# Altium integrated library Wuerth Elektronik EMC Ferrite.IntLib: 193 symbols (part 1 of 3)
Pins are listed as number, name and electrical type; pins without a type are passive.

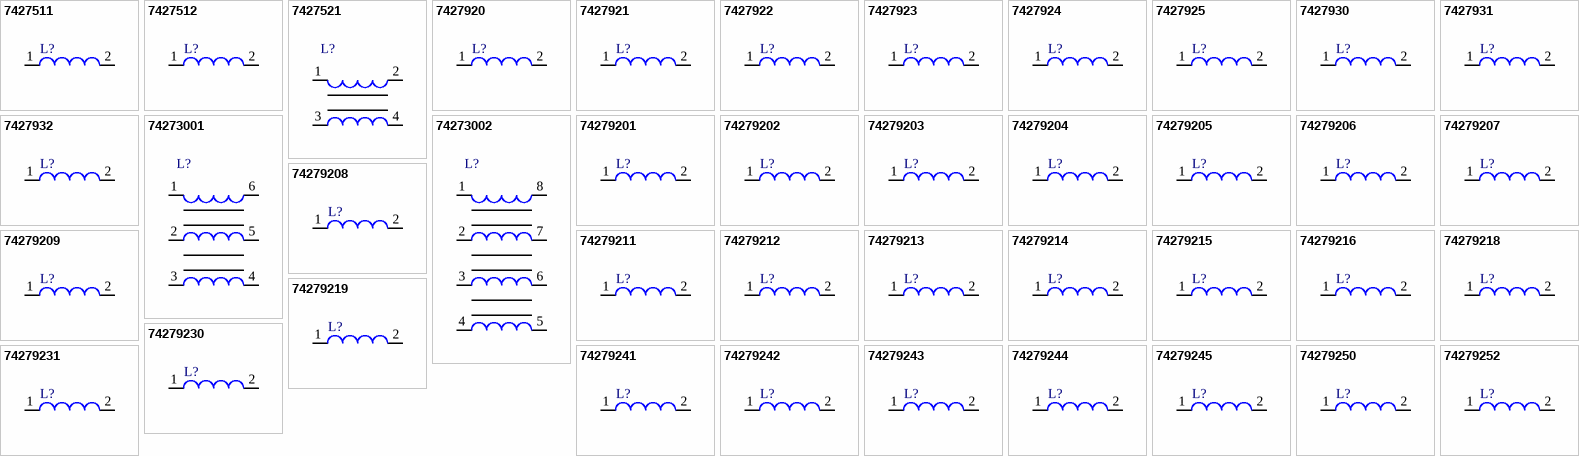
[diagram p0: symbols 7427511 to 74279252]

## 7427511
designator L?
EMI Suppression 5-Hole Ferrite Bead WE-SUKW, Z = 416 Ohm; Impedance: 416 Ohm; DatasheetVersion: ver 6, Jun - 2007; PackageVersion: 2007; PackageReference: WE-SUKW-7427511; PackageDescription: Inductor, 2-Leads, Body 5.5 x 5.0 mm; ComponentLink1Description: Manufacturer URL; ComponentLink1URL: http://www.we-online.com; ComponentLink2Description: Datasheet; ComponentLink2URL: http://www.we-online.de/katalog/media/pdf/7427511.pdf
footprint WE-SUKW-7427511 (Inductor, 2-Leads, Body 5.5x5.0x5.1 mm)
pins: 1, 2

## 7427512
designator L?
EMI Suppression 5-Hole Ferrite Bead WE-SUKW, Z = 580 Ohm; Impedance: 580 Ohm; DatasheetVersion: ver 6, Jun - 2007; PackageVersion: 2007; PackageReference: WE-SUKW-7427512; PackageDescription: Inductor, 2-Leads, Body 8.5 x 4.65 mm; ComponentLink1Description: Manufacturer URL; ComponentLink1URL: http://www.we-online.com; ComponentLink2Description: Datasheet; ComponentLink2URL: http://www.we-online.de/katalog/media/pdf/7427512.pdf
footprint WE-SUKW-7427512 (Inductor, 2-Leads, Body 8.5x4.65x5.5 mm)
pins: 1, 2

## 7427521
designator L?
Common Mode SMD Bead WE-CMS, Z = 52 Ohm; Impedance: 52 Ohm; DatasheetVersion: ver 8, Jul-2010; PackageVersion: 2010; PackageReference: WE-CMS; PackageDescription: Inductor, 4-Leads, Body 8.5 x 5.6 mm; ComponentLink1Description: Manufacturer URL; ComponentLink1URL: http://www.we-online.com; ComponentLink2Description: Datasheet; ComponentLink2URL: http://www.we-online.de/katalog/media/pdf/7427521.pdf
footprint WE-CMS (Inductor, 4-Leads, Body 8.5x5.6x3.2 mm)
pins: 1, 2, 3, 4

## 7427920
designator L?
SMD EMI Suppression Ferrite Bead WE-CBF, Z = 11 Ohm; Impedance: 11 Ohm; DatasheetVersion: Dec-2005; PackageVersion: 2005; PackageReference: SMD-0805; PackageDescription: Chip Inductor, 2-Leads, Body 2.0 x 1.2 mm; ComponentLink1Description: Manufacturer URL; ComponentLink1URL: http://www.we-online.com; ComponentLink2Description: Datasheet; ComponentLink2URL: http://www.we-online.de/katalog/media/pdf/7427920.pdf
footprint SMD-0805 (Chip Inductor, 2-Leads, Body 2.0x1.2x1.1 mm)
pins: 1, 2

## 7427921
designator L?
SMD EMI Suppression Ferrite Bead WE-CBF, Z = 32 Ohm; Impedance: 32 Ohm; DatasheetVersion: Dec-2005; PackageVersion: 2007; PackageReference: SMD-1206; PackageDescription: Chip Inductor, 2-Leads, Body 3.2 x 1.6 mm; ComponentLink1Description: Manufacturer URL; ComponentLink1URL: http://www.we-online.com; ComponentLink2Description: Datasheet; ComponentLink2URL: http://www.we-online.de/katalog/media/pdf/7427921.pdf
footprint SMD-1206 (Chip Inductor, 2-Leads, Body 3.2x1.6x1.3 mm)
pins: 1, 2

## 7427922
designator L?
SMD EMI Suppression Ferrite Bead WE-CBF, Z = 60 Ohm; Impedance: 60 Ohm; DatasheetVersion: Dec-2005; PackageVersion: 2007; PackageReference: SMD-1206; PackageDescription: Chip Inductor, 2-Leads, Body 3.2 x 1.6 mm; ComponentLink1Description: Manufacturer URL; ComponentLink1URL: http://www.we-online.com; ComponentLink2Description: Datasheet; ComponentLink2URL: http://www.we-online.de/katalog/media/pdf/7427922.pdf
footprint SMD-1206 (Chip Inductor, 2-Leads, Body 3.2x1.6x1.3 mm)
pins: 1, 2

## 7427923
designator L?
SMD EMI Suppression Ferrite Bead WE-CBF, Z = 90 Ohm; Impedance: 90 Ohm; DatasheetVersion: Nov-2007; PackageVersion: 2007; PackageReference: SMD-1210; PackageDescription: Chip Inductor, 2-Leads, Body 3.2 x 2.5 mm; ComponentLink1Description: Manufacturer URL; ComponentLink1URL: http://www.we-online.com; ComponentLink2Description: Datasheet; ComponentLink2URL: http://www.we-online.de/katalog/media/pdf/7427923.pdf
footprint SMD-1210 (Chip Inductor, 2-Leads, Body 3.2x2.5x1.5 mm)
pins: 1, 2

## 7427924
designator L?
SMD EMI Suppression Ferrite Bead WE-CBF, Z = 60 Ohm; Impedance: 60 Ohm; DatasheetVersion: Dec-2005; PackageVersion: 2005; PackageReference: SMD-1806; PackageDescription: Chip Inductor, 2-Leads, Body 4.5 x 1.6 mm; ComponentLink1Description: Manufacturer URL; ComponentLink1URL: http://www.we-online.com; ComponentLink2Description: Datasheet; ComponentLink2URL: http://www.we-online.de/katalog/media/pdf/7427924.pdf
footprint SMD-1806 (Chip Inductor, 2-Leads, Body 4.5x1.6x1.8 mm)
pins: 1, 2

## 7427925
designator L?
SMD EMI Suppression Ferrite Bead WE-CBF, Z = 120 Ohm; Impedance: 120 Ohm; DatasheetVersion: Dec-2005; PackageVersion: 2010; PackageReference: SMD-1812; PackageDescription: Chip Inductor, 2-Leads, Body 4.5 x 3.2 mm; ComponentLink1Description: Manufacturer URL; ComponentLink1URL: http://www.we-online.com; ComponentLink2Description: Datasheet; ComponentLink2URL: http://www.we-online.de/katalog/media/pdf/7427925.pdf
footprint SMD-1812 (Chip Inductor, 2-Leads, Body 4.5x3.2x1.7 mm)
pins: 1, 2

## 7427930
designator L?
SMD Power Bead Ferrite WE-PBF, Z = 42 Ohm; Impedance: 42 Ohm; DatasheetVersion: ver 4, Oct-2007; PackageVersion: 2007; PackageReference: PBF-7427930; PackageDescription: Molded Inductor, 2-Leads, Body 4.0 x 3.0 mm; ComponentLink1Description: Manufacturer URL; ComponentLink1URL: http://www.we-online.com; ComponentLink2Description: Datasheet; ComponentLink2URL: http://www.we-online.de/katalog/media/pdf/7427930.pdf
footprint PBF-7427930 (Molded Inductor, 2-Leads, Body 4.0x3.0x2.7 mm)
pins: 1, 2

## 7427931
designator L?
SMD Power Bead Ferrite WE-PBF, Z = 91 Ohm; Impedance: 91 Ohm; DatasheetVersion: ver 4, Oct-2007; PackageVersion: 2007; PackageReference: PBF-7427931; PackageDescription: Molded Inductor, 2-Leads, Body 8.5 x 3.0 mm; ComponentLink1Description: Manufacturer URL; ComponentLink1URL: http://www.we-online.com; ComponentLink2Description: Datasheet; ComponentLink2URL: http://www.we-online.de/katalog/media/pdf/7427931.pdf
footprint PBF-7427931 (Molded Inductor, 2-Leads, Body 8.5x3.0x2.7 mm)
pins: 1, 2

## 7427932
designator L?
SMD Power Bead Ferrite WE-PBF, Z = 98 Ohm; Impedance: 98 Ohm; DatasheetVersion: ver 4, Oct-2007; PackageVersion: 2007; PackageReference: PBF-7427932; PackageDescription: Molded Inductor, 2-Leads, Body 7.8 x 4.75 mm; ComponentLink1Description: Manufacturer URL; ComponentLink1URL: http://www.we-online.com; ComponentLink2Description: Datasheet; ComponentLink2URL: http://www.we-online.de/katalog/media/pdf/7427932.pdf
footprint PBF-7427932 (Molded Inductor, 2-Leads, Body 7.8x4.75x3.15 mm)
pins: 1, 2

## 74273001
designator L?
Multiline EMI Suppression Ferrite WE-MLS, Z = 264 Ohm; Impedance: 264 Ohm; DatasheetVersion: ver 7, Apr-2007; PackageVersion: 2007; PackageReference: WE-MLS-74273001; PackageDescription: Inductor, 6-Leads, Body 7.62 x 5.08 mm; ComponentLink1Description: Manufacturer URL; ComponentLink1URL: http://www.we-online.com; ComponentLink2Description: Datasheet; ComponentLink2URL: http://www.we-online.de/katalog/media/pdf/74273001.pdf
footprint WE-MLS-74273001 (Inductor, 6-Leads, Body 7.62x5.08x10 mm)
pins: 1, 2, 3, 4, 5, 6

## 74273002
designator L?
Multiline EMI Suppression Ferrite WE-MLS, Z = 249 Ohm; Impedance: 249 Ohm; DatasheetVersion: ver 7, Apr-2007; PackageVersion: 2007; PackageReference: WE-MLS-74273002; PackageDescription: Inductor, 8-Leads, Body 10.88 x 5.49 mm; ComponentLink1Description: Manufacturer URL; ComponentLink1URL: http://www.we-online.com; ComponentLink2Description: Datasheet; ComponentLink2URL: http://www.we-online.de/katalog/media/pdf/74273002.pdf
footprint WE-MLS-74273002 (Inductor, 8-Leads, Body 10.88x5.49x10 mm)
pins: 1, 2, 3, 4, 5, 6, 7, 8

## 74279201
designator L?
SMD EMI Suppression Ferrite Bead WE-CBF, Z = 32 Ohm; Impedance: 32 Ohm; DatasheetVersion: Dec-2005; PackageVersion: 2005; PackageReference: SMD-0805; PackageDescription: Chip Inductor, 2-Leads, Body 2.0 x 1.2 mm; ComponentLink1Description: Manufacturer URL; ComponentLink1URL: http://www.we-online.com; ComponentLink2Description: Datasheet; ComponentLink2URL: http://www.we-online.de/katalog/media/pdf/74279201.pdf
footprint SMD-0805 (Chip Inductor, 2-Leads, Body 2.0x1.2x1.1 mm)
pins: 1, 2

## 74279202
designator L?
SMD EMI Suppression Ferrite Bead WE-CBF, Z = 120 Ohm; Impedance: 120 Ohm; DatasheetVersion: Dec-2005; PackageVersion: 2005; PackageReference: SMD-0805; PackageDescription: Chip Inductor, 2-Leads, Body 2.0 x 1.2 mm; ComponentLink1Description: Manufacturer URL; ComponentLink1URL: http://www.we-online.com; ComponentLink2Description: Datasheet; ComponentLink2URL: http://www.we-online.de/katalog/media/pdf/74279202.pdf
footprint SMD-0805 (Chip Inductor, 2-Leads, Body 2.0x1.2x1.1 mm)
pins: 1, 2

## 74279203
designator L?
SMD EMI Suppression Ferrite Bead WE-CBF, Z = 150 Ohm; Impedance: 150 Ohm; DatasheetVersion: Dec-2005; PackageVersion: 2005; PackageReference: SMD-0805; PackageDescription: Chip Inductor, 2-Leads, Body 2.0 x 1.2 mm; ComponentLink1Description: Manufacturer URL; ComponentLink1URL: http://www.we-online.com; ComponentLink2Description: Datasheet; ComponentLink2URL: http://www.we-online.de/katalog/media/pdf/74279203.pdf
footprint SMD-0805 (Chip Inductor, 2-Leads, Body 2.0x1.2x1.1 mm)
pins: 1, 2

## 74279204
designator L?
SMD EMI Suppression Ferrite Bead WE-CBF, Z = 600 Ohm; Impedance: 600 Ohm; DatasheetVersion: Dec-2005; PackageVersion: 2005; PackageReference: SMD-0805; PackageDescription: Chip Inductor, 2-Leads, Body 2.0 x 1.2 mm; ComponentLink1Description: Manufacturer URL; ComponentLink1URL: http://www.we-online.com; ComponentLink2Description: Datasheet; ComponentLink2URL: http://www.we-online.de/katalog/media/pdf/74279204.pdf
footprint SMD-0805 (Chip Inductor, 2-Leads, Body 2.0x1.2x1.1 mm)
pins: 1, 2

## 74279205
designator L?
SMD EMI Suppression Ferrite Bead WE-CBF, Z = 1000 Ohm; DatasheetVersion: Dec-2005; PackageVersion: 2005; PackageReference: SMD-0805; PackageDescription: Chip Inductor, 2-Leads, Body 2.0 x 1.2 mm; Impedance: 1000 Ohm; ComponentLink1Description: Manufacturer URL; ComponentLink1URL: http://www.we-online.com; ComponentLink2Description: Datasheet; ComponentLink2URL: http://www.we-online.de/katalog/media/pdf/74279205.pdf
footprint SMD-0805 (Chip Inductor, 2-Leads, Body 2.0x1.2x1.1 mm)
pins: 1, 2

## 74279206
designator L?
SMD EMI Suppression Ferrite Bead WE-CBF, Z = 30 Ohm; Impedance: 30 Ohm; DatasheetVersion: Dec-2005; PackageVersion: 2005; PackageReference: SMD-0805; PackageDescription: Chip Inductor, 2-Leads, Body 2.0 x 1.2 mm; ComponentLink1Description: Manufacturer URL; ComponentLink1URL: http://www.we-online.com; ComponentLink2Description: Datasheet; ComponentLink2URL: http://www.we-online.de/katalog/media/pdf/74279206.pdf
footprint SMD-0805 (Chip Inductor, 2-Leads, Body 2.0x1.2x1.1 mm)
pins: 1, 2

## 74279207
designator L?
SMD EMI Suppression Ferrite Bead WE-CBF, Z = 100 Ohm; Impedance: 100 Ohm; DatasheetVersion: Dec-2005; PackageVersion: 2005; PackageReference: SMD-0805; PackageDescription: Chip Inductor, 2-Leads, Body 2.0 x 1.2 mm; ComponentLink1Description: Manufacturer URL; ComponentLink1URL: http://www.we-online.com; ComponentLink2Description: Datasheet; ComponentLink2URL: http://www.we-online.de/katalog/media/pdf/74279207.pdf
footprint SMD-0805 (Chip Inductor, 2-Leads, Body 2.0x1.2x1.1 mm)
pins: 1, 2

## 74279208
designator L?
SMD EMI Suppression Ferrite Bead WE-CBF, Z = 40 Ohm; Impedance: 40 Ohm; DatasheetVersion: Dec-2005; PackageVersion: 2005; PackageReference: SMD-0805; PackageDescription: Chip Inductor, 2-Leads, Body 2.0 x 1.2 mm; ComponentLink1Description: Manufacturer URL; ComponentLink1URL: http://www.we-online.com; ComponentLink2Description: Datasheet; ComponentLink2URL: http://www.we-online.de/katalog/media/pdf/74279208.pdf
footprint SMD-0805 (Chip Inductor, 2-Leads, Body 2.0x1.2x1.1 mm)
pins: 1, 2

## 74279209
designator L?
SMD EMI Suppression Ferrite Bead WE-CBF, Z = 1200 Ohm; DatasheetVersion: Dec-2005; PackageVersion: 2005; PackageReference: SMD-0805; PackageDescription: Chip Inductor, 2-Leads, Body 2.0 x 1.2 mm; Impedance: 1200 Ohm; ComponentLink1Description: Manufacturer URL; ComponentLink1URL: http://www.we-online.com; ComponentLink2Description: Datasheet; ComponentLink2URL: http://www.we-online.de/katalog/media/pdf/74279209.pdf
footprint SMD-0805 (Chip Inductor, 2-Leads, Body 2.0x1.2x1.1 mm)
pins: 1, 2

## 74279211
designator L?
SMD EMI Suppression Ferrite Bead WE-CBF, Z = 90 Ohm; Impedance: 90 Ohm; DatasheetVersion: Dec-2005; PackageVersion: 2007; PackageReference: SMD-1206; PackageDescription: Chip Inductor, 2-Leads, Body 3.2 x 1.6 mm; ComponentLink1Description: Manufacturer URL; ComponentLink1URL: http://www.we-online.com; ComponentLink2Description: Datasheet; ComponentLink2URL: http://www.we-online.de/katalog/media/pdf/74279211.pdf
footprint SMD-1206 (Chip Inductor, 2-Leads, Body 3.2x1.6x1.3 mm)
pins: 1, 2

## 74279212
designator L?
SMD EMI Suppression Ferrite Bead WE-CBF, Z = 150 Ohm; Impedance: 150 Ohm; DatasheetVersion: Dec-2005; PackageVersion: 2007; PackageReference: SMD-1206; PackageDescription: Chip Inductor, 2-Leads, Body 3.2 x 1.6 mm; ComponentLink1Description: Manufacturer URL; ComponentLink1URL: http://www.we-online.com; ComponentLink2Description: Datasheet; ComponentLink2URL: http://www.we-online.de/katalog/media/pdf/74279212.pdf
footprint SMD-1206 (Chip Inductor, 2-Leads, Body 3.2x1.6x1.3 mm)
pins: 1, 2

## 74279213
designator L?
SMD EMI Suppression Ferrite Bead WE-CBF, Z = 600 Ohm; Impedance: 600 Ohm; DatasheetVersion: Dec-2005; PackageVersion: 2007; PackageReference: SMD-1206; PackageDescription: Chip Inductor, 2-Leads, Body 3.2 x 1.6 mm; ComponentLink1Description: Manufacturer URL; ComponentLink1URL: http://www.we-online.com; ComponentLink2Description: Datasheet; ComponentLink2URL: http://www.we-online.de/katalog/media/pdf/74279213.pdf
footprint SMD-1206 (Chip Inductor, 2-Leads, Body 3.2x1.6x1.3 mm)
pins: 1, 2

## 74279214
designator L?
SMD EMI Suppression Ferrite Bead WE-CBF, Z = 1000 Ohm; DatasheetVersion: Dec-2005; PackageVersion: 2007; PackageReference: SMD-1206; PackageDescription: Chip Inductor, 2-Leads, Body 3.2 x 1.6 mm; Impedance: 1000 Ohm; ComponentLink1Description: Manufacturer URL; ComponentLink1URL: http://www.we-online.com; ComponentLink2Description: Datasheet; ComponentLink2URL: http://www.we-online.de/katalog/media/pdf/74279214.pdf
footprint SMD-1206 (Chip Inductor, 2-Leads, Body 3.2x1.6x1.3 mm)
pins: 1, 2

## 74279215
designator L?
SMD EMI Suppression Ferrite Bead WE-CBF, Z = 80 Ohm; Impedance: 80 Ohm; DatasheetVersion: Dec-2005; PackageVersion: 2007; PackageReference: SMD-1206; PackageDescription: Chip Inductor, 2-Leads, Body 3.2 x 1.6 mm; ComponentLink1Description: Manufacturer URL; ComponentLink1URL: http://www.we-online.com; ComponentLink2Description: Datasheet; ComponentLink2URL: http://www.we-online.de/katalog/media/pdf/74279215.pdf
footprint SMD-1206 (Chip Inductor, 2-Leads, Body 3.2x1.6x1.3 mm)
pins: 1, 2

## 74279216
designator L?
SMD EMI Suppression Ferrite Bead WE-CBF, Z = 1200 Ohm; DatasheetVersion: Dec-2005; PackageVersion: 2007; PackageReference: SMD-1206; PackageDescription: Chip Inductor, 2-Leads, Body 3.2 x 1.6 mm; Impedance: 1200 Ohm; ComponentLink1Description: Manufacturer URL; ComponentLink1URL: http://www.we-online.com; ComponentLink2Description: Datasheet; ComponentLink2URL: http://www.we-online.de/katalog/media/pdf/74279216.pdf
footprint SMD-1206 (Chip Inductor, 2-Leads, Body 3.2x1.6x1.3 mm)
pins: 1, 2

## 74279218
designator L?
SMD EMI Suppression Ferrite Bead WE-CBF, Z = 600 Ohm; Impedance: 600 Ohm; DatasheetVersion: Dec-2005; PackageVersion: 2007; PackageReference: SMD-1206; PackageDescription: Chip Inductor, 2-Leads, Body 3.2 x 1.6 mm; ComponentLink1Description: Manufacturer URL; ComponentLink1URL: http://www.we-online.com; ComponentLink2Description: Datasheet; ComponentLink2URL: http://www.we-online.de/katalog/media/pdf/74279218.pdf
footprint SMD-1206 (Chip Inductor, 2-Leads, Body 3.2x1.6x1.3 mm)
pins: 1, 2

## 74279219
designator L?
SMD EMI Suppression Ferrite Bead WE-CBF, Z = 700 Ohm; Impedance: 700 Ohm; DatasheetVersion: Dec-2005; PackageVersion: 2007; PackageReference: SMD-1206; PackageDescription: Chip Inductor, 2-Leads, Body 3.2 x 1.6 mm; ComponentLink1Description: Manufacturer URL; ComponentLink1URL: http://www.we-online.com; ComponentLink2Description: Datasheet; ComponentLink2URL: http://www.we-online.de/katalog/media/pdf/74279219.pdf
footprint SMD-1206 (Chip Inductor, 2-Leads, Body 3.2x1.6x1.3 mm)
pins: 1, 2

## 74279230
designator L?
SMD EMI Suppression Ferrite Bead WE-CBF, Z = 32 Ohm; Impedance: 32 Ohm; DatasheetVersion: Nov-2007; PackageVersion: 2007; PackageReference: SMD-1210; PackageDescription: Chip Inductor, 2-Leads, Body 3.2 x 2.5 mm; ComponentLink1Description: Manufacturer URL; ComponentLink1URL: http://www.we-online.com; ComponentLink2Description: Datasheet; ComponentLink2URL: http://www.we-online.de/katalog/media/pdf/74279230.pdf
footprint SMD-1210 (Chip Inductor, 2-Leads, Body 3.2x2.5x1.5 mm)
pins: 1, 2

## 74279231
designator L?
SMD EMI Suppression Ferrite Bead WE-CBF, Z = 60 Ohm; Impedance: 60 Ohm; DatasheetVersion: Nov-2007; PackageVersion: 2007; PackageReference: SMD-1210; PackageDescription: Chip Inductor, 2-Leads, Body 3.2 x 2.5 mm; ComponentLink1Description: Manufacturer URL; ComponentLink1URL: http://www.we-online.com; ComponentLink2Description: Datasheet; ComponentLink2URL: http://www.we-online.de/katalog/media/pdf/74279231.pdf
footprint SMD-1210 (Chip Inductor, 2-Leads, Body 3.2x2.5x1.5 mm)
pins: 1, 2

## 74279241
designator L?
SMD EMI Suppression Ferrite Bead WE-CBF, Z = 80 Ohm; Impedance: 80 Ohm; DatasheetVersion: Dec-2005; PackageVersion: 2005; PackageReference: SMD-1806; PackageDescription: Chip Inductor, 2-Leads, Body 4.5 x 1.6 mm; ComponentLink1Description: Manufacturer URL; ComponentLink1URL: http://www.we-online.com; ComponentLink2Description: Datasheet; ComponentLink2URL: http://www.we-online.de/katalog/media/pdf/74279241.pdf
footprint SMD-1806 (Chip Inductor, 2-Leads, Body 4.5x1.6x1.8 mm)
pins: 1, 2

## 74279242
designator L?
SMD EMI Suppression Ferrite Bead WE-CBF, Z = 150 Ohm; Impedance: 150 Ohm; DatasheetVersion: Dec-2005; PackageVersion: 2005; PackageReference: SMD-1806; PackageDescription: Chip Inductor, 2-Leads, Body 4.5 x 1.6 mm; ComponentLink1Description: Manufacturer URL; ComponentLink1URL: http://www.we-online.com; ComponentLink2Description: Datasheet; ComponentLink2URL: http://www.we-online.de/katalog/media/pdf/74279242.pdf
footprint SMD-1806 (Chip Inductor, 2-Leads, Body 4.5x1.6x1.8 mm)
pins: 1, 2

## 74279243
designator L?
SMD EMI Suppression Ferrite Bead WE-CBF, Z = 75 Ohm; Impedance: 75 Ohm; DatasheetVersion: Dec-2005; PackageVersion: 2005; PackageReference: SMD-1806; PackageDescription: Chip Inductor, 2-Leads, Body 4.5 x 1.6 mm; ComponentLink1Description: Manufacturer URL; ComponentLink1URL: http://www.we-online.com; ComponentLink2Description: Datasheet; ComponentLink2URL: http://www.we-online.de/katalog/media/pdf/74279243.pdf
footprint SMD-1806 (Chip Inductor, 2-Leads, Body 4.5x1.6x1.8 mm)
pins: 1, 2

## 74279244
designator L?
SMD EMI Suppression Ferrite Bead WE-CBF, Z = 850 Ohm; Impedance: 850 Ohm; DatasheetVersion: Dec-2005; PackageVersion: 2005; PackageReference: SMD-1806; PackageDescription: Chip Inductor, 2-Leads, Body 4.5 x 1.6 mm; ComponentLink1Description: Manufacturer URL; ComponentLink1URL: http://www.we-online.com; ComponentLink2Description: Datasheet; ComponentLink2URL: http://www.we-online.de/katalog/media/pdf/74279244.pdf
footprint SMD-1806 (Chip Inductor, 2-Leads, Body 4.5x1.6x1.8 mm)
pins: 1, 2

## 74279245
designator L?
SMD EMI Suppression Ferrite Bead WE-CBF, Z = 110 Ohm; Impedance: 110 Ohm; DatasheetVersion: Dec-2005; PackageVersion: 2005; PackageReference: SMD-1806; PackageDescription: Chip Inductor, 2-Leads, Body 4.5 x 1.6 mm; ComponentLink1Description: Manufacturer URL; ComponentLink1URL: http://www.we-online.com; ComponentLink2Description: Datasheet; ComponentLink2URL: http://www.we-online.de/katalog/media/pdf/74279245.pdf
footprint SMD-1806 (Chip Inductor, 2-Leads, Body 4.5x1.6x1.8 mm)
pins: 1, 2

## 74279250
designator L?
SMD EMI Suppression Ferrite Bead WE-CBF, Z = 70 Ohm; Impedance: 70 Ohm; DatasheetVersion: Dec-2005; PackageVersion: 2010; PackageReference: SMD-1812; PackageDescription: Chip Inductor, 2-Leads, Body 4.5 x 3.2 mm; ComponentLink1Description: Manufacturer URL; ComponentLink1URL: http://www.we-online.com; ComponentLink2Description: Datasheet; ComponentLink2URL: http://www.we-online.de/katalog/media/pdf/74279250.pdf
footprint SMD-1812 (Chip Inductor, 2-Leads, Body 4.5x3.2x1.7 mm)
pins: 1, 2

## 74279252
designator L?
SMD EMI Suppression Ferrite Bead WE-CBF, Z = 680 Ohm; Impedance: 680 Ohm; DatasheetVersion: ver 7, May-2010; PackageVersion: 2010; PackageReference: SMD-1812; PackageDescription: Chip Inductor, 2-Leads, Body 4.5 x 3.2 mm; ComponentLink1Description: Manufacturer URL; ComponentLink1URL: http://www.we-online.com; ComponentLink2Description: Datasheet; ComponentLink2URL: http://www.we-online.de/katalog/media/pdf/74279252.pdf
footprint SMD-1812 (Chip Inductor, 2-Leads, Body 4.5x3.2x1.7 mm)
pins: 1, 2

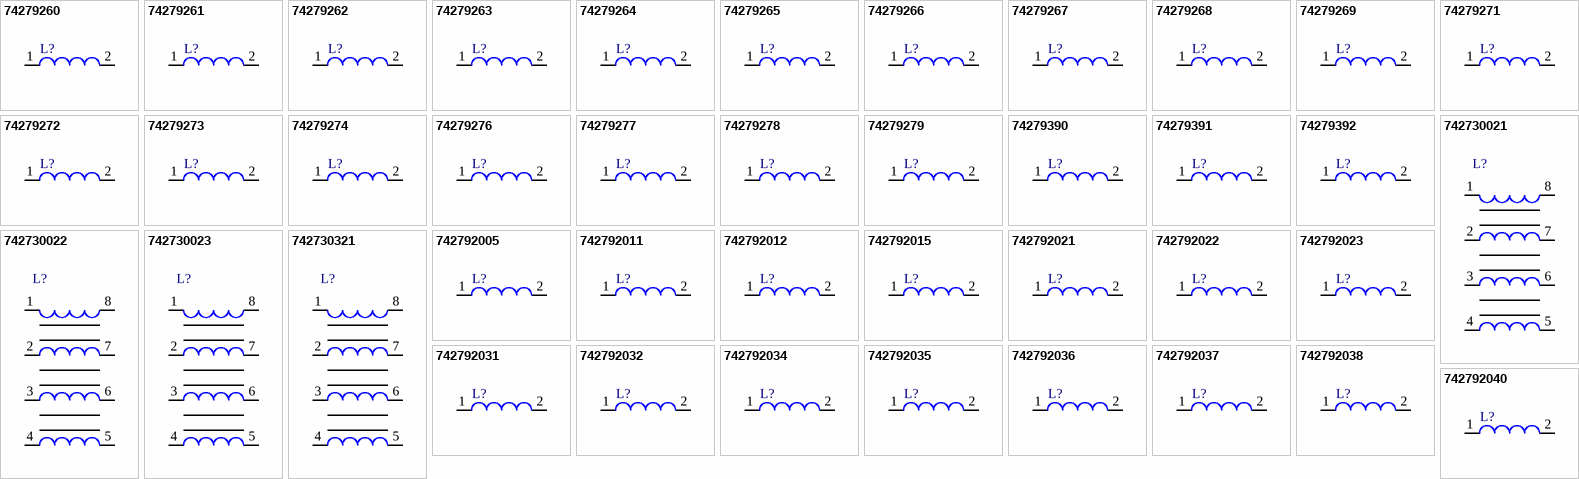
[diagram p1: symbols 74279260 to 742792040]

## 74279260
designator L?
SMD EMI Suppression Ferrite Bead WE-CBF, Z = 40 Ohm; Impedance: 40 Ohm; DatasheetVersion: Dec-2005; PackageVersion: 2009; PackageReference: SMD-0603; PackageDescription: Chip Inductor, 2-Leads, Body 1.6 x 0.8 mm; ComponentLink1Description: Manufacturer URL; ComponentLink1URL: http://www.we-online.com; ComponentLink2Description: Datasheet; ComponentLink2URL: http://www.we-online.de/katalog/media/pdf/74279260.pdf
footprint SMD-0603 (Chip Inductor, 2-Leads, Body 1.6x0.8x0.95 mm)
pins: 1, 2

## 74279261
designator L?
SMD EMI Suppression Ferrite Bead WE-CBF, Z = 80 Ohm; Impedance: 80 Ohm; DatasheetVersion: ver 5, Jun-2007; PackageVersion: 2009; PackageReference: SMD-0603; PackageDescription: Chip Inductor, 2-Leads, Body 1.6 x 0.8 mm; ComponentLink1Description: Manufacturer URL; ComponentLink1URL: http://www.we-online.com; ComponentLink2Description: Datasheet; ComponentLink2URL: http://www.we-online.de/katalog/media/pdf/74279261.pdf
footprint SMD-0603 (Chip Inductor, 2-Leads, Body 1.6x0.8x0.95 mm)
pins: 1, 2

## 74279262
designator L?
SMD EMI Suppression Ferrite Bead WE-CBF, Z = 120 Ohm; Impedance: 120 Ohm; DatasheetVersion: Dec-2005; PackageVersion: 2009; PackageReference: SMD-0603; PackageDescription: Chip Inductor, 2-Leads, Body 1.6 x 0.8 mm; ComponentLink1Description: Manufacturer URL; ComponentLink1URL: http://www.we-online.com; ComponentLink2Description: Datasheet; ComponentLink2URL: http://www.we-online.de/katalog/media/pdf/74279262.pdf
footprint SMD-0603 (Chip Inductor, 2-Leads, Body 1.6x0.8x0.95 mm)
pins: 1, 2

## 74279263
designator L?
SMD EMI Suppression Ferrite Bead WE-CBF, Z = 220 Ohm; Impedance: 220 Ohm; DatasheetVersion: Dec-2005; PackageVersion: 2009; PackageReference: SMD-0603; PackageDescription: Chip Inductor, 2-Leads, Body 1.6 x 0.8 mm; ComponentLink1Description: Manufacturer URL; ComponentLink1URL: http://www.we-online.com; ComponentLink2Description: Datasheet; ComponentLink2URL: http://www.we-online.de/katalog/media/pdf/74279263.pdf
footprint SMD-0603 (Chip Inductor, 2-Leads, Body 1.6x0.8x0.95 mm)
pins: 1, 2

## 74279264
designator L?
SMD EMI Suppression Ferrite Bead WE-CBF, Z = 300 Ohm; Impedance: 300 Ohm; DatasheetVersion: Dec-2005; PackageVersion: 2009; PackageReference: SMD-0603; PackageDescription: Chip Inductor, 2-Leads, Body 1.6 x 0.8 mm; ComponentLink1Description: Manufacturer URL; ComponentLink1URL: http://www.we-online.com; ComponentLink2Description: Datasheet; ComponentLink2URL: http://www.we-online.de/katalog/media/pdf/74279264.pdf
footprint SMD-0603 (Chip Inductor, 2-Leads, Body 1.6x0.8x0.95 mm)
pins: 1, 2

## 74279265
designator L?
SMD EMI Suppression Ferrite Bead WE-CBF, Z = 600 Ohm; Impedance: 600 Ohm; DatasheetVersion: Dec-2005; PackageVersion: 2009; PackageReference: SMD-0603; PackageDescription: Chip Inductor, 2-Leads, Body 1.6 x 0.8 mm; ComponentLink1Description: Manufacturer URL; ComponentLink1URL: http://www.we-online.com; ComponentLink2Description: Datasheet; ComponentLink2URL: http://www.we-online.de/katalog/media/pdf/74279265.pdf
footprint SMD-0603 (Chip Inductor, 2-Leads, Body 1.6x0.8x0.95 mm)
pins: 1, 2

## 74279266
designator L?
SMD EMI Suppression Ferrite Bead WE-CBF, Z = 1000 Ohm; DatasheetVersion: Dec-2005; PackageVersion: 2009; PackageReference: SMD-0603; PackageDescription: Chip Inductor, 2-Leads, Body 1.6 x 0.8 mm; Impedance: 1000 Ohm; ComponentLink1Description: Manufacturer URL; ComponentLink1URL: http://www.we-online.com; ComponentLink2Description: Datasheet; ComponentLink2URL: http://www.we-online.de/katalog/media/pdf/74279266.pdf
footprint SMD-0603 (Chip Inductor, 2-Leads, Body 1.6x0.8x0.95 mm)
pins: 1, 2

## 74279267
designator L?
SMD EMI Suppression Ferrite Bead WE-CBF, Z = 60 Ohm; Impedance: 60 Ohm; DatasheetVersion: Dec-2005; PackageVersion: 2009; PackageReference: SMD-0603; PackageDescription: Chip Inductor, 2-Leads, Body 1.6 x 0.8 mm; ComponentLink1Description: Manufacturer URL; ComponentLink1URL: http://www.we-online.com; ComponentLink2Description: Datasheet; ComponentLink2URL: http://www.we-online.de/katalog/media/pdf/74279267.pdf
footprint SMD-0603 (Chip Inductor, 2-Leads, Body 1.6x0.8x0.95 mm)
pins: 1, 2

## 74279268
designator L?
SMD EMI Suppression Ferrite Bead WE-CBF, Z = 15 Ohm; Impedance: 15 Ohm; DatasheetVersion: Dec-2005; PackageVersion: 2009; PackageReference: SMD-0603; PackageDescription: Chip Inductor, 2-Leads, Body 1.6 x 0.8 mm; ComponentLink1Description: Manufacturer URL; ComponentLink1URL: http://www.we-online.com; ComponentLink2Description: Datasheet; ComponentLink2URL: http://www.we-online.de/katalog/media/pdf/74279268.pdf
footprint SMD-0603 (Chip Inductor, 2-Leads, Body 1.6x0.8x0.95 mm)
pins: 1, 2

## 74279269
designator L?
SMD EMI Suppression Ferrite Bead WE-CBF, Z = 1200 Ohm; DatasheetVersion: Dec-2005; PackageVersion: 2009; PackageReference: SMD-0603; PackageDescription: Chip Inductor, 2-Leads, Body 1.6 x 0.8 mm; Impedance: 1200 Ohm; ComponentLink1Description: Manufacturer URL; ComponentLink1URL: http://www.we-online.com; ComponentLink2Description: Datasheet; ComponentLink2URL: http://www.we-online.de/katalog/media/pdf/74279269.pdf
footprint SMD-0603 (Chip Inductor, 2-Leads, Body 1.6x0.8x0.95 mm)
pins: 1, 2

## 74279271
designator L?
SMD EMI Suppression Ferrite Bead WE-CBF, Z = 120 Ohm; Impedance: 120 Ohm; DatasheetVersion: ver 6, Jul-2009; PackageVersion: 2009; PackageReference: SMD-0402; PackageDescription: Chip Inductor, 2-Leads, Body 1.0 x 0.5 mm; ComponentLink1Description: Manufacturer URL; ComponentLink1URL: http://www.we-online.com; ComponentLink2Description: Datasheet; ComponentLink2URL: http://www.we-online.de/katalog/media/pdf/74279271.pdf
footprint SMD-0402 (Chip Inductor, 2-Leads, Body 1.0x0.5x0.6 mm)
pins: 1, 2

## 74279272
designator L?
SMD EMI Suppression Ferrite Bead WE-CBF, Z = 300 Ohm; Impedance: 300 Ohm; DatasheetVersion: ver 6, Jul-2009; PackageVersion: 2009; PackageReference: SMD-0402; PackageDescription: Chip Inductor, 2-Leads, Body 1.0 x 0.5 mm; ComponentLink1Description: Manufacturer URL; ComponentLink1URL: http://www.we-online.com; ComponentLink2Description: Datasheet; ComponentLink2URL: http://www.we-online.de/katalog/media/pdf/74279272.pdf
footprint SMD-0402 (Chip Inductor, 2-Leads, Body 1.0x0.5x0.6 mm)
pins: 1, 2

## 74279273
designator L?
SMD EMI Suppression Ferrite Bead WE-CBF, Z = 20 Ohm; Impedance: 20 Ohm; DatasheetVersion: ver 6, Jul-2009; PackageVersion: 2009; PackageReference: SMD-0402; PackageDescription: Chip Inductor, 2-Leads, Body 1.0 x 0.5 mm; ComponentLink1Description: Manufacturer URL; ComponentLink1URL: http://www.we-online.com; ComponentLink2Description: Datasheet; ComponentLink2URL: http://www.we-online.de/katalog/media/pdf/74279273.pdf
footprint SMD-0402 (Chip Inductor, 2-Leads, Body 1.0x0.5x0.6 mm)
pins: 1, 2

## 74279274
designator L?
SMD EMI Suppression Ferrite Bead WE-CBF, Z = 30 Ohm; Impedance: 30 Ohm; DatasheetVersion: ver 6, Jul-2009; PackageVersion: 2009; PackageReference: SMD-0402; PackageDescription: Chip Inductor, 2-Leads, Body 1.0 x 0.5 mm; ComponentLink1Description: Manufacturer URL; ComponentLink1URL: http://www.we-online.com; ComponentLink2Description: Datasheet; ComponentLink2URL: http://www.we-online.de/katalog/media/pdf/74279274.pdf
footprint SMD-0402 (Chip Inductor, 2-Leads, Body 1.0x0.5x0.6 mm)
pins: 1, 2

## 74279276
designator L?
SMD EMI Suppression Ferrite Bead WE-CBF, Z = 60 Ohm; Impedance: 60 Ohm; DatasheetVersion: ver 6, Jul-2009; PackageVersion: 2009; PackageReference: SMD-0402; PackageDescription: Chip Inductor, 2-Leads, Body 1.0 x 0.5 mm; ComponentLink1Description: Manufacturer URL; ComponentLink1URL: http://www.we-online.com; ComponentLink2Description: Datasheet; ComponentLink2URL: http://www.we-online.de/katalog/media/pdf/74279276.pdf
footprint SMD-0402 (Chip Inductor, 2-Leads, Body 1.0x0.5x0.6 mm)
pins: 1, 2

## 74279277
designator L?
SMD EMI Suppression Ferrite Bead WE-CBF, Z = 70 Ohm; Impedance: 70 Ohm; DatasheetVersion: ver 6, Jul-2009; PackageVersion: 2009; PackageReference: SMD-0402; PackageDescription: Chip Inductor, 2-Leads, Body 1.0 x 0.5 mm; ComponentLink1Description: Manufacturer URL; ComponentLink1URL: http://www.we-online.com; ComponentLink2Description: Datasheet; ComponentLink2URL: http://www.we-online.de/katalog/media/pdf/74279277.pdf
footprint SMD-0402 (Chip Inductor, 2-Leads, Body 1.0x0.5x0.6 mm)
pins: 1, 2

## 74279278
designator L?
SMD EMI Suppression Ferrite Bead WE-CBF, Z = 240 Ohm; Impedance: 240 Ohm; DatasheetVersion: ver 6, Jul-2009; PackageVersion: 2009; PackageReference: SMD-0402; PackageDescription: Chip Inductor, 2-Leads, Body 1.0 x 0.5 mm; ComponentLink1Description: Manufacturer URL; ComponentLink1URL: http://www.we-online.com; ComponentLink2Description: Datasheet; ComponentLink2URL: http://www.we-online.de/katalog/media/pdf/74279278.pdf
footprint SMD-0402 (Chip Inductor, 2-Leads, Body 1.0x0.5x0.6 mm)
pins: 1, 2

## 74279279
designator L?
SMD EMI Suppression Ferrite Bead WE-CBF, Z = 600 Ohm; Impedance: 600 Ohm; DatasheetVersion: ver 6, Jul-2009; PackageVersion: 2009; PackageReference: SMD-0402; PackageDescription: Chip Inductor, 2-Leads, Body 1.0 x 0.5 mm; ComponentLink1Description: Manufacturer URL; ComponentLink1URL: http://www.we-online.com; ComponentLink2Description: Datasheet; ComponentLink2URL: http://www.we-online.de/katalog/media/pdf/74279279.pdf
footprint SMD-0402 (Chip Inductor, 2-Leads, Body 1.0x0.5x0.6 mm)
pins: 1, 2

## 74279390
designator L?
SMD Power Bead Ferrite WE-PBF, Z = 42 Ohm, glued version; Impedance: 42 Ohm; DatasheetVersion: ver 4, Oct-2007; PackageVersion: 2007; PackageReference: PBF-7427930; PackageDescription: Molded Inductor, 2-Leads, Body 4.0 x 3.0 mm; ComponentLink1Description: Manufacturer URL; ComponentLink1URL: http://www.we-online.com; ComponentLink2Description: Datasheet; ComponentLink2URL: http://www.we-online.de/katalog/media/pdf/74279390.pdf
footprint PBF-7427930 (Molded Inductor, 2-Leads, Body 4.0x3.0x2.7 mm)
pins: 1, 2

## 74279391
designator L?
SMD Power Bead Ferrite WE-PBF, Z = 91 Ohm, glued version; Impedance: 91 Ohm; DatasheetVersion: ver 4, Oct-2007; PackageVersion: 2007; PackageReference: PBF-7427931; PackageDescription: Molded Inductor, 2-Leads, Body 8.5 x 3.0 mm; ComponentLink1Description: Manufacturer URL; ComponentLink1URL: http://www.we-online.com; ComponentLink2Description: Datasheet; ComponentLink2URL: http://www.we-online.de/katalog/media/pdf/74279391.pdf
footprint PBF-7427931 (Molded Inductor, 2-Leads, Body 8.5x3.0x2.7 mm)
pins: 1, 2

## 74279392
designator L?
SMD Power Bead Ferrite WE-PBF, Z = 98 Ohm; Impedance: 98 Ohm; DatasheetVersion: ver 4, Oct-2007; PackageVersion: 2007; PackageReference: PBF-7427932; PackageDescription: Molded Inductor, 2-Leads, Body 7.8 x 4.75 mm; ComponentLink1Description: Manufacturer URL; ComponentLink1URL: http://www.we-online.com; ComponentLink2Description: Datasheet; ComponentLink2URL: http://www.we-online.de/katalog/media/pdf/74279392.pdf
footprint PBF-7427932 (Molded Inductor, 2-Leads, Body 7.8x4.75x3.15 mm)
pins: 1, 2

## 742730021
designator L?
Multiline EMI Suppression Ferrite WE-MLS, Z = 170 Ohm; Impedance: 170 Ohm; DatasheetVersion: ver 7, Apr-2007; PackageVersion: 2007; PackageReference: WE-MLS-742730021; PackageDescription: Inductor, 8-Leads, Body 11.2 x 11.2 mm; ComponentLink1Description: Manufacturer URL; ComponentLink1URL: http://www.we-online.com; ComponentLink2Description: Datasheet; ComponentLink2URL: http://www.we-online.de/katalog/media/pdf/742730021.pdf
footprint WE-MLS-742730021 (Inductor, 8-Leads, Body 11.2x11.2x5.3 mm)
pins: 1, 2, 3, 4, 5, 6, 7, 8

## 742730022
designator L?
Multiline EMI Suppression Ferrite WE-MLS, Z = 248 Ohm; Impedance: 248 Ohm; DatasheetVersion: ver 7, Apr-2007; PackageVersion: 2007; PackageReference: WE-MLS-742730022; PackageDescription: Inductor, 8-Leads, Body 11.2 x 11.2 mm; ComponentLink1Description: Manufacturer URL; ComponentLink1URL: http://www.we-online.com; ComponentLink2Description: Datasheet; ComponentLink2URL: http://www.we-online.de/katalog/media/pdf/742730022.pdf
footprint WE-MLS-742730022 (Inductor, 8-Leads, Body 11.2x11.2x8 mm)
pins: 1, 2, 3, 4, 5, 6, 7, 8

## 742730023
designator L?
Multiline EMI Suppression Ferrite WE-MLS, Z = 334 Ohm; Impedance: 334 Ohm; DatasheetVersion: ver 7, Apr-2007; PackageVersion: 2007; PackageReference: WE-MLS-742730023; PackageDescription: Inductor, 8-Leads, Body 11.2 x 11.2 mm; ComponentLink1Description: Manufacturer URL; ComponentLink1URL: http://www.we-online.com; ComponentLink2Description: Datasheet; ComponentLink2URL: http://www.we-online.de/katalog/media/pdf/742730023.pdf
footprint WE-MLS-742730023 (Inductor, 8-Leads, Body 11.2x11.2x11 mm)
pins: 1, 2, 3, 4, 5, 6, 7, 8

## 742730321
designator L?
Multiline EMI Suppression Ferrite WE-MLS, Z = 115 Ohm; Impedance: 115 Ohm; DatasheetVersion: ver 1, Mar-2009; PackageVersion: 2007; PackageReference: WE-MLS-742730023; PackageDescription: Inductor, 8-Leads, Body 11.2 x 11.2 mm; ComponentLink1Description: Manufacturer URL; ComponentLink1URL: http://www.we-online.com; ComponentLink2Description: Datasheet; ComponentLink2URL: http://www.we-online.de/katalog/media/pdf/742730321.pdf
footprint WE-MLS-742730023 (Inductor, 8-Leads, Body 11.2x11.2x11 mm)
pins: 1, 2, 3, 4, 5, 6, 7, 8

## 742792005
designator L?
SMD EMI Suppression Ferrite Bead WE-CBF, Z = 5 Ohm; Impedance: 5 Ohm; DatasheetVersion: Dec-2005; PackageVersion: 2005; PackageReference: SMD-0805; PackageDescription: Chip Inductor, 2-Leads, Body 2.0 x 1.2 mm; ComponentLink1Description: Manufacturer URL; ComponentLink1URL: http://www.we-online.com; ComponentLink2Description: Datasheet; ComponentLink2URL: http://www.we-online.de/katalog/media/pdf/742792005.pdf
footprint SMD-0805 (Chip Inductor, 2-Leads, Body 2.0x1.2x1.1 mm)
pins: 1, 2

## 742792011
designator L?
SMD EMI Suppression Ferrite Bead WE-CBF, Z = 10 Ohm; Impedance: 10 Ohm; DatasheetVersion: Dec-2005; PackageVersion: 2005; PackageReference: SMD-0805; PackageDescription: Chip Inductor, 2-Leads, Body 2.0 x 1.2 mm; ComponentLink1Description: Manufacturer URL; ComponentLink1URL: http://www.we-online.com; ComponentLink2Description: Datasheet; ComponentLink2URL: http://www.we-online.de/katalog/media/pdf/742792011.pdf
footprint SMD-0805 (Chip Inductor, 2-Leads, Body 2.0x1.2x1.1 mm)
pins: 1, 2

## 742792012
designator L?
SMD EMI Suppression Ferrite Bead WE-CBF, Z = 33 Ohm; Impedance: 33 Ohm; DatasheetVersion: Dec-2005; PackageVersion: 2005; PackageReference: SMD-0805; PackageDescription: Chip Inductor, 2-Leads, Body 2.0 x 1.2 mm; ComponentLink1Description: Manufacturer URL; ComponentLink1URL: http://www.we-online.com; ComponentLink2Description: Datasheet; ComponentLink2URL: http://www.we-online.de/katalog/media/pdf/742792012.pdf
footprint SMD-0805 (Chip Inductor, 2-Leads, Body 2.0x1.2x1.1 mm)
pins: 1, 2

## 742792015
designator L?
SMD EMI Suppression Ferrite Bead WE-CBF, Z = 56 Ohm; Impedance: 56 Ohm; DatasheetVersion: Dec-2005; PackageVersion: 2005; PackageReference: SMD-0805; PackageDescription: Chip Inductor, 2-Leads, Body 2.0 x 1.2 mm; ComponentLink1Description: Manufacturer URL; ComponentLink1URL: http://www.we-online.com; ComponentLink2Description: Datasheet; ComponentLink2URL: http://www.we-online.de/katalog/media/pdf/742792015.pdf
footprint SMD-0805 (Chip Inductor, 2-Leads, Body 2.0x1.2x1.1 mm)
pins: 1, 2

## 742792021
designator L?
SMD EMI Suppression Ferrite Bead WE-CBF, Z = 21 Ohm; Impedance: 22 Ohm; DatasheetVersion: Dec-2005; PackageVersion: 2005; PackageReference: SMD-0805; PackageDescription: Chip Inductor, 2-Leads, Body 2.0 x 1.2 mm; ComponentLink1Description: Manufacturer URL; ComponentLink1URL: http://www.we-online.com; ComponentLink2Description: Datasheet; ComponentLink2URL: http://www.we-online.de/katalog/media/pdf/742792021.pdf
footprint SMD-0805 (Chip Inductor, 2-Leads, Body 2.0x1.2x1.1 mm)
pins: 1, 2

## 742792022
designator L?
SMD EMI Suppression Ferrite Bead WE-CBF, Z = 220 Ohm; Impedance: 220 Ohm; DatasheetVersion: Dec-2005; PackageVersion: 2005; PackageReference: SMD-0805; PackageDescription: Chip Inductor, 2-Leads, Body 2.0 x 1.2 mm; ComponentLink1Description: Manufacturer URL; ComponentLink1URL: http://www.we-online.com; ComponentLink2Description: Datasheet; ComponentLink2URL: http://www.we-online.de/katalog/media/pdf/742792022.pdf
footprint SMD-0805 (Chip Inductor, 2-Leads, Body 2.0x1.2x1.1 mm)
pins: 1, 2

## 742792023
designator L?
SMD EMI Suppression Ferrite Bead WE-CBF, Z = 120 Ohm; Impedance: 120 Ohm; DatasheetVersion: Dec-2005; PackageVersion: 2005; PackageReference: SMD-0805; PackageDescription: Chip Inductor, 2-Leads, Body 2.0 x 1.2 mm; ComponentLink1Description: Manufacturer URL; ComponentLink1URL: http://www.we-online.com; ComponentLink2Description: Datasheet; ComponentLink2URL: http://www.we-online.de/katalog/media/pdf/742792023.pdf
footprint SMD-0805 (Chip Inductor, 2-Leads, Body 2.0x1.2x1.1 mm)
pins: 1, 2

## 742792031
designator L?
SMD EMI Suppression Ferrite Bead WE-CBF, Z = 300 Ohm; Impedance: 300 Ohm; DatasheetVersion: Dec-2005; PackageVersion: 2005; PackageReference: SMD-0805; PackageDescription: Chip Inductor, 2-Leads, Body 2.0 x 1.2 mm; ComponentLink1Description: Manufacturer URL; ComponentLink1URL: http://www.we-online.com; ComponentLink2Description: Datasheet; ComponentLink2URL: http://www.we-online.de/katalog/media/pdf/742792031.pdf
footprint SMD-0805 (Chip Inductor, 2-Leads, Body 2.0x1.2x1.1 mm)
pins: 1, 2

## 742792032
designator L?
SMD EMI Suppression Ferrite Bead WE-CBF, Z = 400 Ohm; Impedance: 400 Ohm; DatasheetVersion: Dec-2005; PackageVersion: 2005; PackageReference: SMD-0805; PackageDescription: Chip Inductor, 2-Leads, Body 2.0 x 1.2 mm; ComponentLink1Description: Manufacturer URL; ComponentLink1URL: http://www.we-online.com; ComponentLink2Description: Datasheet; ComponentLink2URL: http://www.we-online.de/katalog/media/pdf/742792032.pdf
footprint SMD-0805 (Chip Inductor, 2-Leads, Body 2.0x1.2x1.1 mm)
pins: 1, 2

## 742792034
designator L?
SMD EMI Suppression Ferrite Bead WE-CBF, Z = 220 Ohm; Impedance: 220 Ohm; DatasheetVersion: Dec-2005; PackageVersion: 2005; PackageReference: SMD-0805; PackageDescription: Chip Inductor, 2-Leads, Body 2.0 x 1.2 mm; ComponentLink1Description: Manufacturer URL; ComponentLink1URL: http://www.we-online.com; ComponentLink2Description: Datasheet; ComponentLink2URL: http://www.we-online.de/katalog/media/pdf/742792034.pdf
footprint SMD-0805 (Chip Inductor, 2-Leads, Body 2.0x1.2x1.1 mm)
pins: 1, 2

## 742792035
designator L?
SMD EMI Suppression Ferrite Bead WE-CBF, Z = 300 Ohm; Impedance: 300 Ohm; DatasheetVersion: Dec-2005; PackageVersion: 2005; PackageReference: SMD-0805; PackageDescription: Chip Inductor, 2-Leads, Body 2.0 x 1.2 mm; ComponentLink1Description: Manufacturer URL; ComponentLink1URL: http://www.we-online.com; ComponentLink2Description: Datasheet; ComponentLink2URL: http://www.we-online.de/katalog/media/pdf/742792035.pdf
footprint SMD-0805 (Chip Inductor, 2-Leads, Body 2.0x1.2x1.1 mm)
pins: 1, 2

## 742792036
designator L?
SMD EMI Suppression Ferrite Bead WE-CBF, Z = 470 Ohm; Impedance: 470 Ohm; DatasheetVersion: Dec-2005; PackageVersion: 2005; PackageReference: SMD-0805; PackageDescription: Chip Inductor, 2-Leads, Body 2.0 x 1.2 mm; ComponentLink1Description: Manufacturer URL; ComponentLink1URL: http://www.we-online.com; ComponentLink2Description: Datasheet; ComponentLink2URL: http://www.we-online.de/katalog/media/pdf/742792036.pdf
footprint SMD-0805 (Chip Inductor, 2-Leads, Body 2.0x1.2x1.1 mm)
pins: 1, 2

## 742792037
designator L?
SMD EMI Suppression Ferrite Bead WE-CBF, Z = 330 Ohm; Impedance: 330 Ohm; DatasheetVersion: Dec-2005; PackageVersion: 2005; PackageReference: SMD-0805; PackageDescription: Chip Inductor, 2-Leads, Body 2.0 x 1.2 mm; ComponentLink1Description: Manufacturer URL; ComponentLink1URL: http://www.we-online.com; ComponentLink2Description: Datasheet; ComponentLink2URL: http://www.we-online.de/katalog/media/pdf/742792037.pdf
footprint SMD-0805 (Chip Inductor, 2-Leads, Body 2.0x1.2x1.1 mm)
pins: 1, 2

## 742792038
designator L?
SMD EMI Suppression Ferrite Bead WE-CBF, Z = 240 Ohm; Impedance: 240 Ohm; DatasheetVersion: Dec-2005; PackageVersion: 2005; PackageReference: SMD-0805; PackageDescription: Chip Inductor, 2-Leads, Body 2.0 x 1.2 mm; ComponentLink1Description: Manufacturer URL; ComponentLink1URL: http://www.we-online.com; ComponentLink2Description: Datasheet; ComponentLink2URL: http://www.we-online.de/katalog/media/pdf/742792038.pdf
footprint SMD-0805 (Chip Inductor, 2-Leads, Body 2.0x1.2x1.1 mm)
pins: 1, 2

## 742792040
designator L?
SMD EMI Suppression Ferrite Bead WE-CBF, Z = 600 Ohm; Impedance: 600 Ohm; DatasheetVersion: Dec-2005; PackageVersion: 2005; PackageReference: SMD-0805; PackageDescription: Chip Inductor, 2-Leads, Body 2.0 x 1.2 mm; ComponentLink1Description: Manufacturer URL; ComponentLink1URL: http://www.we-online.com; ComponentLink2Description: Datasheet; ComponentLink2URL: http://www.we-online.de/katalog/media/pdf/742792040.pdf
footprint SMD-0805 (Chip Inductor, 2-Leads, Body 2.0x1.2x1.1 mm)
pins: 1, 2

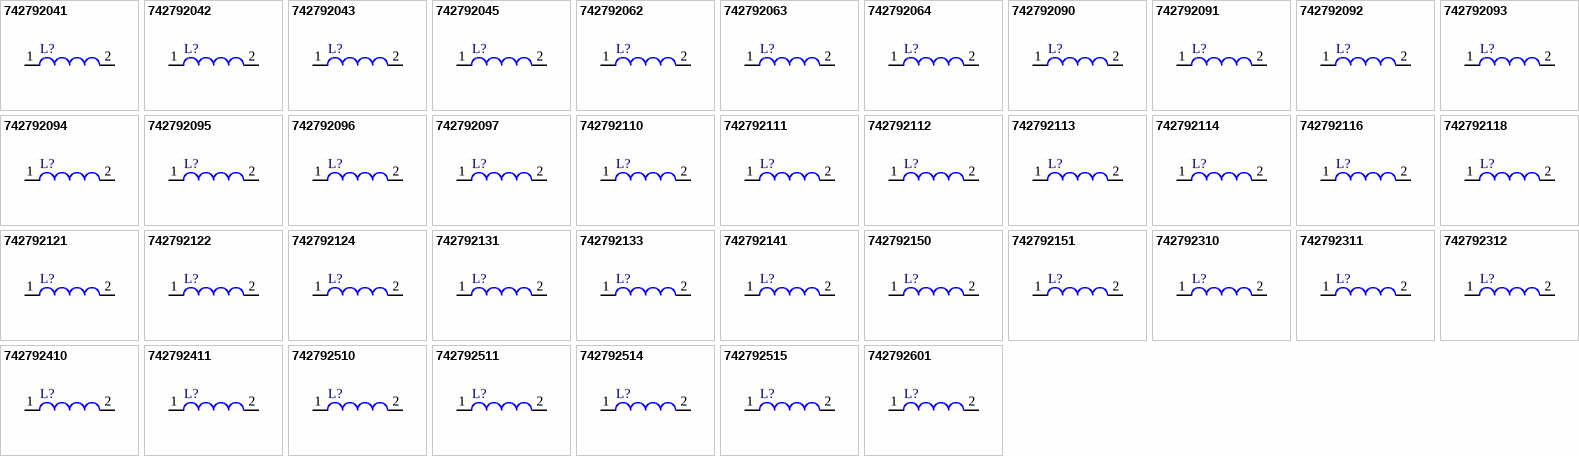
[diagram p2: symbols 742792041 to 742792601]

## 742792041
designator L?
SMD EMI Suppression Ferrite Bead WE-CBF, Z = 600 Ohm; Impedance: 600 Ohm; DatasheetVersion: Dec-2005; PackageVersion: 2005; PackageReference: SMD-0805; PackageDescription: Chip Inductor, 2-Leads, Body 2.0 x 1.2 mm; ComponentLink1Description: Manufacturer URL; ComponentLink1URL: http://www.we-online.com; ComponentLink2Description: Datasheet; ComponentLink2URL: http://www.we-online.de/katalog/media/pdf/742792041.pdf
footprint SMD-0805 (Chip Inductor, 2-Leads, Body 2.0x1.2x1.1 mm)
pins: 1, 2

## 742792042
designator L?
SMD EMI Suppression Ferrite Bead WE-CBF, Z = 600 Ohm; Impedance: 600 Ohm; DatasheetVersion: Dec-2005; PackageVersion: 2005; PackageReference: SMD-0805; PackageDescription: Chip Inductor, 2-Leads, Body 2.0 x 1.2 mm; ComponentLink1Description: Manufacturer URL; ComponentLink1URL: http://www.we-online.com; ComponentLink2Description: Datasheet; ComponentLink2URL: http://www.we-online.de/katalog/media/pdf/742792042.pdf
footprint SMD-0805 (Chip Inductor, 2-Leads, Body 2.0x1.2x1.1 mm)
pins: 1, 2

## 742792043
designator L?
SMD EMI Suppression Ferrite Bead WE-CBF, Z = 600 Ohm; Impedance: 600 Ohm; DatasheetVersion: Dec-2005; PackageVersion: 2005; PackageReference: SMD-0805; PackageDescription: Chip Inductor, 2-Leads, Body 2.0 x 1.2 mm; ComponentLink1Description: Manufacturer URL; ComponentLink1URL: http://www.we-online.com; ComponentLink2Description: Datasheet; ComponentLink2URL: http://www.we-online.de/katalog/media/pdf/742792043.pdf
footprint SMD-0805 (Chip Inductor, 2-Leads, Body 2.0x1.2x1.1 mm)
pins: 1, 2

## 742792045
designator L?
SMD EMI Suppression Ferrite Bead WE-CBF, Z = 750 Ohm; Impedance: 750 Ohm; DatasheetVersion: Dec-2005; PackageVersion: 2005; PackageReference: SMD-0805; PackageDescription: Chip Inductor, 2-Leads, Body 2.0 x 1.2 mm; ComponentLink1Description: Manufacturer URL; ComponentLink1URL: http://www.we-online.com; ComponentLink2Description: Datasheet; ComponentLink2URL: http://www.we-online.de/katalog/media/pdf/742792045.pdf
footprint SMD-0805 (Chip Inductor, 2-Leads, Body 2.0x1.2x1.1 mm)
pins: 1, 2

## 742792062
designator L?
SMD EMI Suppression Ferrite Bead WE-CBF, Z = 80 Ohm; Impedance: 80 Ohm; DatasheetVersion: Dec-2005; PackageVersion: 2005; PackageReference: SMD-0805; PackageDescription: Chip Inductor, 2-Leads, Body 2.0 x 1.2 mm; ComponentLink1Description: Manufacturer URL; ComponentLink1URL: http://www.we-online.com; ComponentLink2Description: Datasheet; ComponentLink2URL: http://www.we-online.de/katalog/media/pdf/742792062.pdf
footprint SMD-0805 (Chip Inductor, 2-Leads, Body 2.0x1.2x1.1 mm)
pins: 1, 2

## 742792063
designator L?
SMD EMI Suppression Ferrite Bead WE-CBF, Z = 60 Ohm; Impedance: 60 Ohm; DatasheetVersion: Dec-2005; PackageVersion: 2005; PackageReference: SMD-0805; PackageDescription: Chip Inductor, 2-Leads, Body 2.0 x 1.2 mm; ComponentLink1Description: Manufacturer URL; ComponentLink1URL: http://www.we-online.com; ComponentLink2Description: Datasheet; ComponentLink2URL: http://www.we-online.de/katalog/media/pdf/742792063.pdf
footprint SMD-0805 (Chip Inductor, 2-Leads, Body 2.0x1.2x1.1 mm)
pins: 1, 2

## 742792064
designator L?
SMD EMI Suppression Ferrite Bead WE-CBF, Z = 75 Ohm; Impedance: 75 Ohm; DatasheetVersion: Dec-2005; PackageVersion: 2005; PackageReference: SMD-0805; PackageDescription: Chip Inductor, 2-Leads, Body 2.0 x 1.2 mm; ComponentLink1Description: Manufacturer URL; ComponentLink1URL: http://www.we-online.com; ComponentLink2Description: Datasheet; ComponentLink2URL: http://www.we-online.de/katalog/media/pdf/742792064.pdf
footprint SMD-0805 (Chip Inductor, 2-Leads, Body 2.0x1.2x1.1 mm)
pins: 1, 2

## 742792090
designator L?
SMD EMI Suppression Ferrite Bead WE-CBF, Z = 1800 Ohm; DatasheetVersion: Dec-2005; PackageVersion: 2005; PackageReference: SMD-0805; PackageDescription: Chip Inductor, 2-Leads, Body 2.0 x 1.2 mm; Impedance: 1800 Ohm; ComponentLink1Description: Manufacturer URL; ComponentLink1URL: http://www.we-online.com; ComponentLink2Description: Datasheet; ComponentLink2URL: http://www.we-online.de/katalog/media/pdf/742792090.pdf
footprint SMD-0805 (Chip Inductor, 2-Leads, Body 2.0x1.2x1.1 mm)
pins: 1, 2

## 742792091
designator L?
SMD EMI Suppression Ferrite Bead WE-CBF, Z = 1500 Ohm; DatasheetVersion: Dec-2005; PackageVersion: 2005; PackageReference: SMD-0805; PackageDescription: Chip Inductor, 2-Leads, Body 2.0 x 1.2 mm; Impedance: 1500 Ohm; ComponentLink1Description: Manufacturer URL; ComponentLink1URL: http://www.we-online.com; ComponentLink2Description: Datasheet; ComponentLink2URL: http://www.we-online.de/katalog/media/pdf/742792091.pdf
footprint SMD-0805 (Chip Inductor, 2-Leads, Body 2.0x1.2x1.1 mm)
pins: 1, 2

## 742792092
designator L?
SMD EMI Suppression Ferrite Bead WE-CBF, Z = 2000 Ohm; DatasheetVersion: Dec-2005; PackageVersion: 2005; PackageReference: SMD-0805; PackageDescription: Chip Inductor, 2-Leads, Body 2.0 x 1.2 mm; Impedance: 2000 Ohm; ComponentLink1Description: Manufacturer URL; ComponentLink1URL: http://www.we-online.com; ComponentLink2Description: Datasheet; ComponentLink2URL: http://www.we-online.de/katalog/media/pdf/742792092.pdf
footprint SMD-0805 (Chip Inductor, 2-Leads, Body 2.0x1.2x1.1 mm)
pins: 1, 2

## 742792093
designator L?
SMD EMI Suppression Ferrite Bead WE-CBF, Z = 2200 Ohm; DatasheetVersion: Dec-2005; PackageVersion: 2005; PackageReference: SMD-0805; PackageDescription: Chip Inductor, 2-Leads, Body 2.0 x 1.2 mm; Impedance: 2200 Ohm; ComponentLink1Description: Manufacturer URL; ComponentLink1URL: http://www.we-online.com; ComponentLink2Description: Datasheet; ComponentLink2URL: http://www.we-online.de/katalog/media/pdf/742792093.pdf
footprint SMD-0805 (Chip Inductor, 2-Leads, Body 2.0x1.2x1.1 mm)
pins: 1, 2

## 742792094
designator L?
SMD EMI Suppression Ferrite Bead WE-CBF, Z = 2200 Ohm; DatasheetVersion: Dec-2005; PackageVersion: 2005; PackageReference: SMD-0805; PackageDescription: Chip Inductor, 2-Leads, Body 2.0 x 1.2 mm; Impedance: 2200 Ohm; ComponentLink1Description: Manufacturer URL; ComponentLink1URL: http://www.we-online.com; ComponentLink2Description: Datasheet; ComponentLink2URL: http://www.we-online.de/katalog/media/pdf/742792094.pdf
footprint SMD-0805 (Chip Inductor, 2-Leads, Body 2.0x1.2x1.1 mm)
pins: 1, 2

## 742792095
designator L?
SMD EMI Suppression Ferrite Bead WE-CBF, Z = 2700 Ohm; DatasheetVersion: Dec-2005; PackageVersion: 2005; PackageReference: SMD-0805; PackageDescription: Chip Inductor, 2-Leads, Body 2.0 x 1.2 mm; Impedance: 2700 Ohm; ComponentLink1Description: Manufacturer URL; ComponentLink1URL: http://www.we-online.com; ComponentLink2Description: Datasheet; ComponentLink2URL: http://www.we-online.de/katalog/media/pdf/742792095.pdf
footprint SMD-0805 (Chip Inductor, 2-Leads, Body 2.0x1.2x1.1 mm)
pins: 1, 2

## 742792096
designator L?
SMD EMI Suppression Ferrite Bead WE-CBF, Z = 1000 Ohm; DatasheetVersion: Dec-2005; PackageVersion: 2005; PackageReference: SMD-0805; PackageDescription: Chip Inductor, 2-Leads, Body 2.0 x 1.2 mm; Impedance: 1000 Ohm; ComponentLink1Description: Manufacturer URL; ComponentLink1URL: http://www.we-online.com; ComponentLink2Description: Datasheet; ComponentLink2URL: http://www.we-online.de/katalog/media/pdf/742792096.pdf
footprint SMD-0805 (Chip Inductor, 2-Leads, Body 2.0x1.2x1.1 mm)
pins: 1, 2